# Altium schematic symbol library AD8494.SchLib: 1 symbol
Pins are listed as number, name and electrical type; pins without a type are passive.

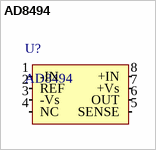
[diagram p0: symbol AD8494]

## AD8494
designator U?
pins: 1 -IN (in), 2 REF (in), 3 -Vs (power), 4 NC (in), 5 SENSE (in), 6 OUT (out), 7 +Vs (power), 8 +IN (in)